# Altium schematic symbol library STMicroelectronics STM32 F1.SchLib: 244 symbols (part 3 of 24)
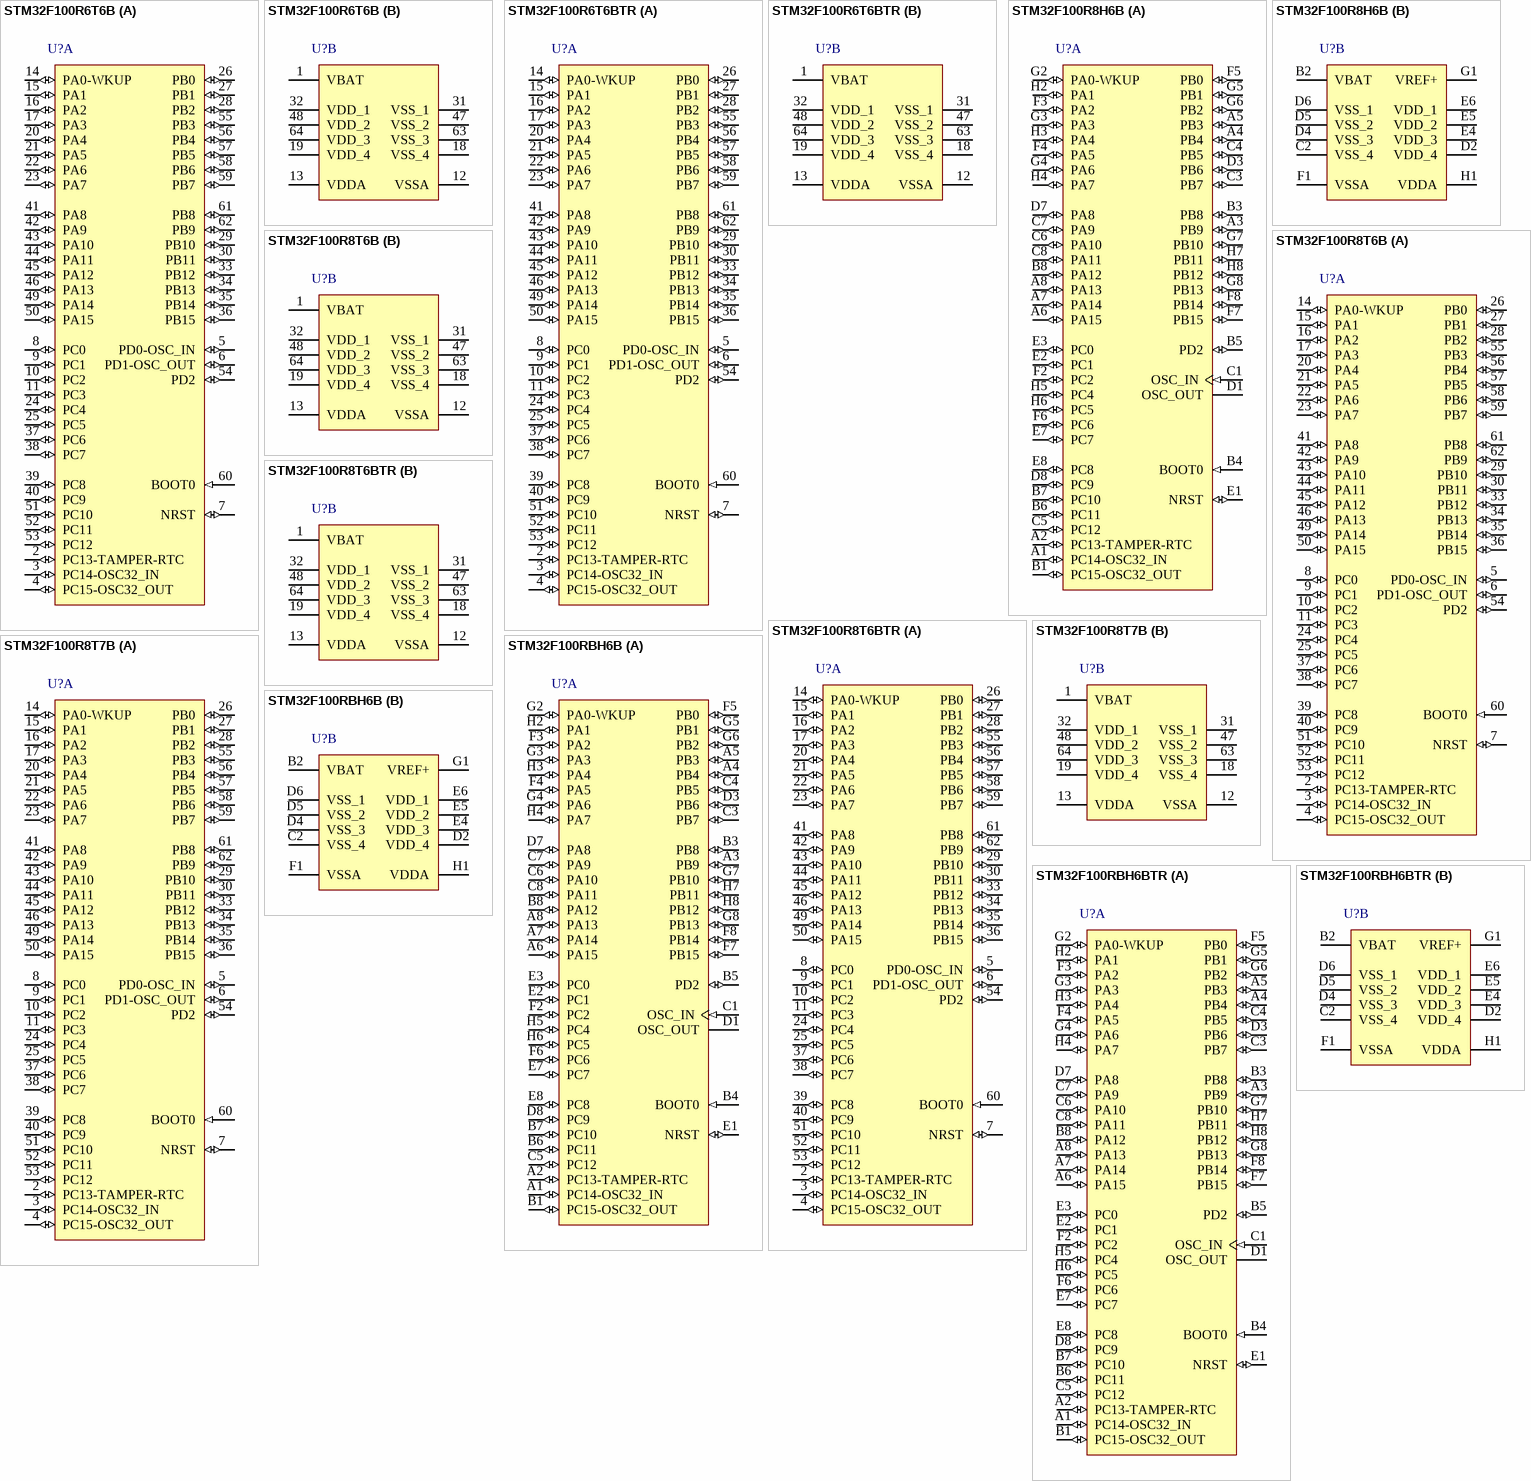
[diagram p44: symbols STM32F100R6T6B to STM32F100RBH6BTR]

## STM32F100RBH6B
designator U?
ARM Cortex-M3 32-bit MCU, 128 KB Flash, 8 KB Internal RAM, 51 I/Os, 64-pin TFBGA, -40 to 85 degC, Tray; PartNumber: STM32F100RBH6B; A/D Converter: 1x12-bit (16 Channel); D/A Converter: 2x12-bit (2 Channel); FLASH Size (Prog) (kB): 128; I/Os (High Current): 51; Internal RAM Size (kB): 8; Operating Frequency(F) (Processor speed) (MHz): 24; Supply Voltage(Vcc) min (V): 2; DatasheetVersion: Rev. 7; PackageVersion: Rev. 8, 02/2013; PackageReference: TFBGA64; PackageDescription: 64-Ball Thin Fine Pitch BGA, 5 x 5 x 1.2 mm Body, 0.5 mm Pitch; Supplier 1: Digi-Key; Supplier Part Number 1: 497-10495-ND; Supplier 2: Farnell; Supplier Part Number 2: 1899003; Supplier 3: Newark; Supplier Part Number 3: 72T2637; Supplier 4: Mouser; Supplier Part Number 4: 511-STM32F100RBH6B; Core: ARM Cortex-M3; Packing: Tray; Mounting Technology: Surface Mount; ComponentLink1Description: Manufacturer URL; ComponentLink1URL: http://www.st.com/web/en/home.html; ComponentLink2Description: Datasheet; ComponentLink2URL: http://www.st.com/st-web-ui/static/active/en/resource/technical/document/datasheet/CD00251732.pdf; ComponentLink3Description: Package Specification; ComponentLink3URL: http://www.st.com/st-web-ui/static/active/en/resource/technical/document/datasheet/CD00277537.pdf
footprint STM-TFBGA64 (BGA, 64-Balls, Body 5x5mm, Pitch 0.5mm)
part A pins: A1 PC14-OSC32_IN (io) "PC14-OSC32_IN/PC14/OSC32_IN", A2 PC13-TAMPER-RTC (io) "PC13-TAMPER-RTC/PC13/TAMPER-RTC", A3 PB9 (io) "PB9/TIM4_CH4/TIM17_CH1/I2C1_SDA", A4 PB4 (io) "PB4/NJTRST/TIM3_CH1/SPI1_MISO", A5 PB3 (io) "PB3/JTDO/TIM2_CH2/TRACESWO/SPI1_SCK", A6 PA15 (io) "PA15/JTDI/TIM2_CH1_ETR/SPI1_NSS", A7 PA14 (io) "PA14/JTCK/SWCLK", A8 PA13 (io) "PA13/JTMS-SWDIO", B1 PC15-OSC32_OUT (io) "PC15-OSC32_OUT/PC15/OSC32_OUT", B3 PB8 (io) "PB8/TIM4_CH3/TIM16_CH1/CEC/I2C1_SCL", B4 BOOT0 (in), B5 PD2 (io) "PD2/TIM3_ETR", B6 PC11 (io) "PC11/USART3_RX", B7 PC10 (io) "PC10/USART3_TX", B8 PA12 (io) "PA12/USART1_RTS/TIM1_ETR", C1 OSC_IN (in) "PD0/OSC_IN", C3 PB7 (io) "PB7/I2C1_SDA/TIM17_CH1N/TIM4_CH2/USART1_RX", C4 PB5 (io) "PB5/I2C1_SMBA/TIM16_BKIN/TIM3_CH2/SPI1_MOSI", C5 PC12 (io) "PC12/USART3_CK", C6 PA10 (io) "PA10/USART1_RX/TIM1_CH3/TIM17_BKIN", C7 PA9 (io) "PA9/USART1_TX/TIM1_CH2/TIM15_BKIN", C8 PA11 (io) "PA11/USART1_CTS/TIM1_CH4", D1 OSC_OUT "PD1/OSC_OUT", D3 PB6 (io) "PB6/I2C1_SCL/TIM4_CH1/TIM16_CH1N/USART1_TX", D7 PA8 (io) "PA8/USART1_CK/MCO/TIM1_CH1", D8 PC9 (io) "PC9/TIM3_CH4", E1 NRST (io), E2 PC1 (io) "PC1/ADC1_IN11", E3 PC0 (io) "PC0/ADC1_IN10", E7 PC7 (io) "PC7/TIM3_CH2", E8 PC8 (io) "PC8/TIM3_CH3", F2 PC2 (io) "PC2/ADC1_IN12", F3 PA2 (io) "PA2/USART2_TX/ADC1_IN2/TIM2_CH3/TIM15_CH1", F4 PA5 (io) "PA5/SPI1_SCK/ADC1_IN5/DAC2_OUT", F5 PB0 (io) "PB0/ADC1_IN8/TIM3_CH3/TIM1_CH2N", F6 PC6 (io) "PC6/TIM3_CH1", F7 PB15 (io) "PB15/SPI2_MOSI/TIM1_CH3N/TIM15_CH1N/TIM15_CH2", F8 PB14 (io) "PB14/SPI2_MISO/TIM1_CH2N/USART3_RTS/TIM15_CH1", G2 PA0-WKUP (io) "PA0-WKUP/PA0/WKUP/USART2_CTS/ADC1_IN0/TIM2_CH1_ETR", G3 PA3 (io) "PA3/USART2_RX/ADC1_IN3/TIM2_CH4/TIM15_CH2", G4 PA6 (io) "PA6/SPI1_MISO/ADC1_IN6/TIM3_CH1/TIM1_BKIN/TIM16_CH1", G5 PB1 (io) "PB1/ADC1_IN9/TIM3_CH4/TIM1_CH3N", G6 PB2 (io) "PB2/BOOT1", G7 PB10 (io) "PB10/I2C2_SCL/USART3_TX/TIM2_CH3/HDMI_CEC", G8 PB13 (io) "PB13/SPI2_SCK/TIM1_CH1N/USART3_CTS", H2 PA1 (io) "PA1/USART2_RTS/ADC1_IN1/TIM2_CH2", H3 PA4 (io) "PA4/SPI1_NSS/ADC1_IN4/USART2_CK/DAC1_OUT", H4 PA7 (io) "PA7/SPI1_MOSI/ADC1_IN7/TIM3_CH2/TIM1_CH1N/TIM17_CH1", H5 PC4 (io) "PC4/ADC1_IN14", H6 PC5 (io) "PC5/ADC1_IN15", H7 PB11 (io) "PB11/I2C2_SDA/USART3_RX/TIM2_CH4", H8 PB12 (io) "PB12/SPI2_NSS/I2C2_SMBA/TIM1_BKIN/USART3_CK"
part B pins: B2 VBAT (power), C2 VSS_4 (power), D2 VDD_4 (power), D4 VSS_3 (power), D5 VSS_2 (power), D6 VSS_1 (power), E4 VDD_3 (power), E5 VDD_2 (power), E6 VDD_1 (power), F1 VSSA (power), G1 VREF+ (power), H1 VDDA (power)

## STM32F100RBH6BTR
designator U?
ARM Cortex-M3 32-bit MCU, 128 KB Flash, 8 KB Internal RAM, 51 I/Os, 64-pin TFBGA, -40 to 85 degC, Tape and Reel; PartNumber: STM32F100RBH6BTR; A/D Converter: 1x12-bit (16 Channel); D/A Converter: 2x12-bit (2 Channel); FLASH Size (Prog) (kB): 128; I/Os (High Current): 51; Internal RAM Size (kB): 8; Operating Frequency(F) (Processor speed) (MHz): 24; Supply Voltage(Vcc) min (V): 2; DatasheetVersion: Rev. 7; PackageVersion: Rev. 8, 02/2013; PackageReference: TFBGA64; PackageDescription: 64-Ball Thin Fine Pitch BGA, 5 x 5 x 1.2 mm Body, 0.5 mm Pitch; Supplier 1: Digi-Key; Supplier Part Number 1: STM32F100RBH6BTR-ND; Supplier 2: Mouser; Supplier Part Number 2: 511-STM32F100RBH6BTR; Core: ARM Cortex-M3; Packing: Tape and Reel; Mounting Technology: Surface Mount; ComponentLink1Description: Manufacturer URL; ComponentLink1URL: http://www.st.com/web/en/home.html; ComponentLink2Description: Datasheet; ComponentLink2URL: http://www.st.com/st-web-ui/static/active/en/resource/technical/document/datasheet/CD00251732.pdf; ComponentLink3Description: Package Specification; ComponentLink3URL: http://www.st.com/st-web-ui/static/active/en/resource/technical/document/datasheet/CD00277537.pdf
footprint STM-TFBGA64 (BGA, 64-Balls, Body 5x5mm, Pitch 0.5mm)
part A pins: A1 PC14-OSC32_IN (io) "PC14-OSC32_IN/PC14/OSC32_IN", A2 PC13-TAMPER-RTC (io) "PC13-TAMPER-RTC/PC13/TAMPER-RTC", A3 PB9 (io) "PB9/TIM4_CH4/TIM17_CH1/I2C1_SDA", A4 PB4 (io) "PB4/NJTRST/TIM3_CH1/SPI1_MISO", A5 PB3 (io) "PB3/JTDO/TIM2_CH2/TRACESWO/SPI1_SCK", A6 PA15 (io) "PA15/JTDI/TIM2_CH1_ETR/SPI1_NSS", A7 PA14 (io) "PA14/JTCK/SWCLK", A8 PA13 (io) "PA13/JTMS-SWDIO", B1 PC15-OSC32_OUT (io) "PC15-OSC32_OUT/PC15/OSC32_OUT", B3 PB8 (io) "PB8/TIM4_CH3/TIM16_CH1/CEC/I2C1_SCL", B4 BOOT0 (in), B5 PD2 (io) "PD2/TIM3_ETR", B6 PC11 (io) "PC11/USART3_RX", B7 PC10 (io) "PC10/USART3_TX", B8 PA12 (io) "PA12/USART1_RTS/TIM1_ETR", C1 OSC_IN (in) "PD0/OSC_IN", C3 PB7 (io) "PB7/I2C1_SDA/TIM17_CH1N/TIM4_CH2/USART1_RX", C4 PB5 (io) "PB5/I2C1_SMBA/TIM16_BKIN/TIM3_CH2/SPI1_MOSI", C5 PC12 (io) "PC12/USART3_CK", C6 PA10 (io) "PA10/USART1_RX/TIM1_CH3/TIM17_BKIN", C7 PA9 (io) "PA9/USART1_TX/TIM1_CH2/TIM15_BKIN", C8 PA11 (io) "PA11/USART1_CTS/TIM1_CH4", D1 OSC_OUT "PD1/OSC_OUT", D3 PB6 (io) "PB6/I2C1_SCL/TIM4_CH1/TIM16_CH1N/USART1_TX", D7 PA8 (io) "PA8/USART1_CK/MCO/TIM1_CH1", D8 PC9 (io) "PC9/TIM3_CH4", E1 NRST (io), E2 PC1 (io) "PC1/ADC1_IN11", E3 PC0 (io) "PC0/ADC1_IN10", E7 PC7 (io) "PC7/TIM3_CH2", E8 PC8 (io) "PC8/TIM3_CH3", F2 PC2 (io) "PC2/ADC1_IN12", F3 PA2 (io) "PA2/USART2_TX/ADC1_IN2/TIM2_CH3/TIM15_CH1", F4 PA5 (io) "PA5/SPI1_SCK/ADC1_IN5/DAC2_OUT", F5 PB0 (io) "PB0/ADC1_IN8/TIM3_CH3/TIM1_CH2N", F6 PC6 (io) "PC6/TIM3_CH1", F7 PB15 (io) "PB15/SPI2_MOSI/TIM1_CH3N/TIM15_CH1N/TIM15_CH2", F8 PB14 (io) "PB14/SPI2_MISO/TIM1_CH2N/USART3_RTS/TIM15_CH1", G2 PA0-WKUP (io) "PA0-WKUP/PA0/WKUP/USART2_CTS/ADC1_IN0/TIM2_CH1_ETR", G3 PA3 (io) "PA3/USART2_RX/ADC1_IN3/TIM2_CH4/TIM15_CH2", G4 PA6 (io) "PA6/SPI1_MISO/ADC1_IN6/TIM3_CH1/TIM1_BKIN/TIM16_CH1", G5 PB1 (io) "PB1/ADC1_IN9/TIM3_CH4/TIM1_CH3N", G6 PB2 (io) "PB2/BOOT1", G7 PB10 (io) "PB10/I2C2_SCL/USART3_TX/TIM2_CH3/HDMI_CEC", G8 PB13 (io) "PB13/SPI2_SCK/TIM1_CH1N/USART3_CTS", H2 PA1 (io) "PA1/USART2_RTS/ADC1_IN1/TIM2_CH2", H3 PA4 (io) "PA4/SPI1_NSS/ADC1_IN4/USART2_CK/DAC1_OUT", H4 PA7 (io) "PA7/SPI1_MOSI/ADC1_IN7/TIM3_CH2/TIM1_CH1N/TIM17_CH1", H5 PC4 (io) "PC4/ADC1_IN14", H6 PC5 (io) "PC5/ADC1_IN15", H7 PB11 (io) "PB11/I2C2_SDA/USART3_RX/TIM2_CH4", H8 PB12 (io) "PB12/SPI2_NSS/I2C2_SMBA/TIM1_BKIN/USART3_CK"
part B pins: B2 VBAT (power), C2 VSS_4 (power), D2 VDD_4 (power), D4 VSS_3 (power), D5 VSS_2 (power), D6 VSS_1 (power), E4 VDD_3 (power), E5 VDD_2 (power), E6 VDD_1 (power), F1 VSSA (power), G1 VREF+ (power), H1 VDDA (power)

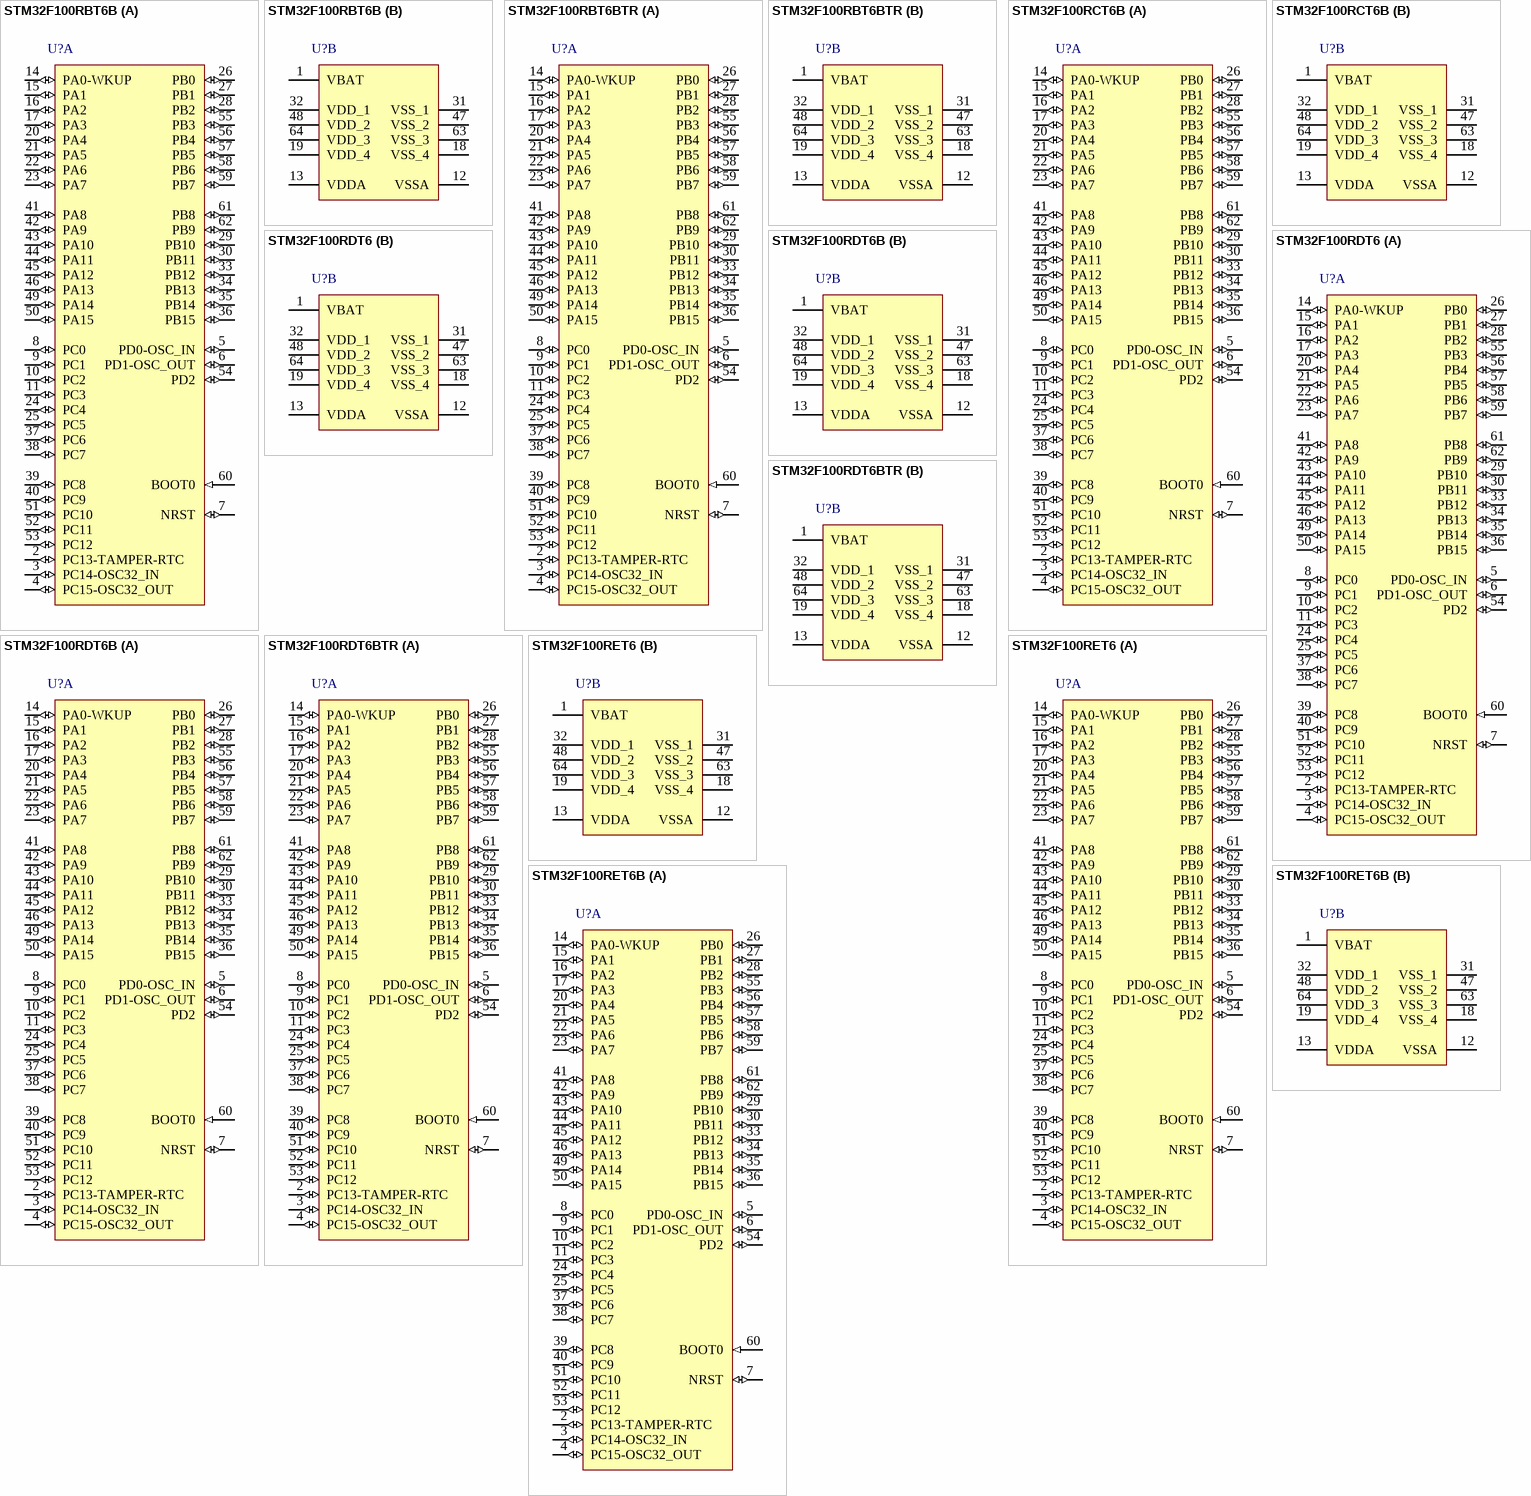
[diagram p3: symbols STM32F100RBT6B to STM32F100RET6B]

## STM32F100RBT6B
designator U?
ARM Cortex-M3 32-bit MCU, 128 KB Flash, 8 KB Internal RAM, 51 I/Os, 64-pin LQFP, -40 to 85 degC, Tray; PartNumber: STM32F100RBT6B; A/D Converter: 1x12-bit (16 Channel); D/A Converter: 2x12-bit (2 Channel); FLASH Size (Prog) (kB): 128; I/Os (High Current): 51; Internal RAM Size (kB): 8; Operating Frequency(F) (Processor speed) (MHz): 24; Supply Voltage(Vcc) min (V): 2; DatasheetVersion: Rev. 7; PackageVersion: Rev. 4, 06/2013; PackageReference: LQFP64; PackageDescription: 64-Pin Low Profile Quad Flat Package, 10 x 10 mm Body, 0.5 mm Pitch; Supplier 1: Digi-Key; Supplier Part Number 1: 497-10494-ND; Supplier 2: Newark; Supplier Part Number 2: 76R0989; Supplier 3: Mouser; Supplier Part Number 3: 511-STM32F100RBT6B; Core: ARM Cortex-M3; Packing: Tray; Mounting Technology: Surface Mount; ComponentLink1Description: Manufacturer URL; ComponentLink1URL: http://www.st.com/web/en/home.html; ComponentLink2Description: Datasheet; ComponentLink2URL: http://www.st.com/st-web-ui/static/active/en/resource/technical/document/datasheet/CD00251732.pdf; ComponentLink3Description: Package Specification; ComponentLink3URL: http://www.st.com/st-web-ui/static/active/en/resource/technical/document/datasheet/DM00037051.pdf
footprint STM-LQFP64_N (Thin QFP, 64-Leads, Body 10x10mm, Pitch 0.5mm, IPC Medium Density)
footprint STM-LQFP64_L (Thin QFP, 64-Leads, Body 10x10mm, Pitch 0.5mm, IPC High Density)
footprint STM-LQFP64_M (Thin QFP, 64-Leads, Body 10x10mm, Pitch 0.5mm, IPC Low Density)
footprint STM-LQFP64_V (Thin QFP, 64-Leads, Body 10x10mm, Pitch 0.5mm, ST Recommended)
part A pins: 2 PC13-TAMPER-RTC (io) "PC13-TAMPER-RTC/PC13/TAMPER-RTC", 3 PC14-OSC32_IN (io) "PC14-OSC32_IN/PC14/OSC32_IN", 4 PC15-OSC32_OUT (io) "PC15-OSC32_OUT/PC15/OSC32_OUT", 5 PD0-OSC_IN (io) "PD0/OSC_IN", 6 PD1-OSC_OUT (io) "PD1/OSC_OUT", 7 NRST (io), 8 PC0 (io) "PC0/ADC1_IN10", 9 PC1 (io) "PC1/ADC1_IN11", 10 PC2 (io) "PC2/ADC1_IN12", 11 PC3 (io) "PC3/ADC1_IN13", 14 PA0-WKUP (io) "PA0-WKUP/PA0/WKUP/USART2_CTS/ADC1_IN0/TIM2_CH1_ETR", 15 PA1 (io) "PA1/USART2_RTS/ADC1_IN1/TIM2_CH2", 16 PA2 (io) "PA2/USART2_TX/ADC1_IN2/TIM2_CH3/TIM15_CH1", 17 PA3 (io) "PA3/USART2_RX/ADC1_IN3/TIM2_CH4/TIM15_CH2", 20 PA4 (io) "PA4/SPI1_NSS/ADC1_IN4/USART2_CK/DAC1_OUT", 21 PA5 (io) "PA5/SPI1_SCK/ADC1_IN5/DAC2_OUT", 22 PA6 (io) "PA6/SPI1_MISO/ADC1_IN6/TIM3_CH1/TIM1_BKIN/TIM16_CH1", 23 PA7 (io) "PA7/SPI1_MOSI/ADC1_IN7/TIM3_CH2/TIM1_CH1N/TIM17_CH1", 24 PC4 (io) "PC4/ADC1_IN14", 25 PC5 (io) "PC5/ADC1_IN15", 26 PB0 (io) "PB0/ADC1_IN8/TIM3_CH3/TIM1_CH2N", 27 PB1 (io) "PB1/ADC1_IN9/TIM3_CH4/TIM1_CH3N", 28 PB2 (io) "PB2/BOOT1", 29 PB10 (io) "PB10/I2C2_SCL/USART3_TX/TIM2_CH3/HDMI_CEC", 30 PB11 (io) "PB11/I2C2_SDA/USART3_RX/TIM2_CH4", 33 PB12 (io) "PB12/SPI2_NSS/I2C2_SMBA/TIM1_BKIN/USART3_CK", 34 PB13 (io) "PB13/SPI2_SCK/TIM1_CH1N/USART3_CTS", 35 PB14 (io) "PB14/SPI2_MISO/TIM1_CH2N/USART3_RTS/TIM15_CH1", 36 PB15 (io) "PB15/SPI2_MOSI/TIM1_CH3N/TIM15_CH1N/TIM15_CH2", 37 PC6 (io) "PC6/TIM3_CH1", 38 PC7 (io) "PC7/TIM3_CH2", 39 PC8 (io) "PC8/TIM3_CH3", 40 PC9 (io) "PC9/TIM3_CH4", 41 PA8 (io) "PA8/USART1_CK/MCO/TIM1_CH1", 42 PA9 (io) "PA9/USART1_TX/TIM1_CH2/TIM15_BKIN", 43 PA10 (io) "PA10/USART1_RX/TIM1_CH3/TIM17_BKIN", 44 PA11 (io) "PA11/USART1_CTS/TIM1_CH4", 45 PA12 (io) "PA12/USART1_RTS/TIM1_ETR", 46 PA13 (io) "PA13/JTMS-SWDIO", 49 PA14 (io) "PA14/JTCK/SWCLK", 50 PA15 (io) "PA15/JTDI/TIM2_CH1_ETR/SPI1_NSS", 51 PC10 (io) "PC10/USART3_TX", 52 PC11 (io) "PC11/USART3_RX", 53 PC12 (io) "PC12/USART3_CK", 54 PD2 (io) "PD2/TIM3_ETR", 55 PB3 (io) "PB3/JTDO/TIM2_CH2/TRACESWO/SPI1_SCK", 56 PB4 (io) "PB4/NJTRST/TIM3_CH1/SPI1_MISO", 57 PB5 (io) "PB5/I2C1_SMBA/TIM16_BKIN/TIM3_CH2/SPI1_MOSI", 58 PB6 (io) "PB6/I2C1_SCL/TIM4_CH1/TIM16_CH1N/USART1_TX", 59 PB7 (io) "PB7/I2C1_SDA/TIM17_CH1N/TIM4_CH2/USART1_RX", 60 BOOT0 (in), 61 PB8 (io) "PB8/TIM4_CH3/TIM16_CH1/CEC/I2C1_SCL", 62 PB9 (io) "PB9/TIM4_CH4/TIM17_CH1/I2C1_SDA"
part B pins: 1 VBAT (power), 12 VSSA (power), 13 VDDA (power), 18 VSS_4 (power), 19 VDD_4 (power), 31 VSS_1 (power), 32 VDD_1 (power), 47 VSS_2 (power), 48 VDD_2 (power), 63 VSS_3 (power), 64 VDD_3 (power)

## STM32F100RBT6BTR
designator U?
ARM Cortex-M3 32-bit MCU, 128 KB Flash, 8 KB Internal RAM, 51 I/Os, 64-pin LQFP, -40 to 85 degC, Tape and Reel; PartNumber: STM32F100RBT6BTR; A/D Converter: 1x12-bit (16 Channel); D/A Converter: 2x12-bit (2 Channel); FLASH Size (Prog) (kB): 128; I/Os (High Current): 51; Internal RAM Size (kB): 8; Operating Frequency(F) (Processor speed) (MHz): 24; Supply Voltage(Vcc) min (V): 2; DatasheetVersion: Rev. 7; PackageVersion: Rev. 4, 06/2013; PackageReference: LQFP64; PackageDescription: 64-Pin Low Profile Quad Flat Package, 10 x 10 mm Body, 0.5 mm Pitch; Supplier 1: Digi-Key; Supplier Part Number 1: STM32F100RBT6BTR-ND; Supplier 2: Mouser; Supplier Part Number 2: 511-STM32F100RBT6BTR; Core: ARM Cortex-M3; Packing: Tape and Reel; Mounting Technology: Surface Mount; ComponentLink1Description: Manufacturer URL; ComponentLink1URL: http://www.st.com/web/en/home.html; ComponentLink2Description: Datasheet; ComponentLink2URL: http://www.st.com/st-web-ui/static/active/en/resource/technical/document/datasheet/CD00251732.pdf; ComponentLink3Description: Package Specification; ComponentLink3URL: http://www.st.com/st-web-ui/static/active/en/resource/technical/document/datasheet/DM00037051.pdf
footprint STM-LQFP64_N (Thin QFP, 64-Leads, Body 10x10mm, Pitch 0.5mm, IPC Medium Density)
footprint STM-LQFP64_L (Thin QFP, 64-Leads, Body 10x10mm, Pitch 0.5mm, IPC High Density)
footprint STM-LQFP64_M (Thin QFP, 64-Leads, Body 10x10mm, Pitch 0.5mm, IPC Low Density)
footprint STM-LQFP64_V (Thin QFP, 64-Leads, Body 10x10mm, Pitch 0.5mm, ST Recommended)
part A pins: 2 PC13-TAMPER-RTC (io) "PC13-TAMPER-RTC/PC13/TAMPER-RTC", 3 PC14-OSC32_IN (io) "PC14-OSC32_IN/PC14/OSC32_IN", 4 PC15-OSC32_OUT (io) "PC15-OSC32_OUT/PC15/OSC32_OUT", 5 PD0-OSC_IN (io) "PD0/OSC_IN", 6 PD1-OSC_OUT (io) "PD1/OSC_OUT", 7 NRST (io), 8 PC0 (io) "PC0/ADC1_IN10", 9 PC1 (io) "PC1/ADC1_IN11", 10 PC2 (io) "PC2/ADC1_IN12", 11 PC3 (io) "PC3/ADC1_IN13", 14 PA0-WKUP (io) "PA0-WKUP/PA0/WKUP/USART2_CTS/ADC1_IN0/TIM2_CH1_ETR", 15 PA1 (io) "PA1/USART2_RTS/ADC1_IN1/TIM2_CH2", 16 PA2 (io) "PA2/USART2_TX/ADC1_IN2/TIM2_CH3/TIM15_CH1", 17 PA3 (io) "PA3/USART2_RX/ADC1_IN3/TIM2_CH4/TIM15_CH2", 20 PA4 (io) "PA4/SPI1_NSS/ADC1_IN4/USART2_CK/DAC1_OUT", 21 PA5 (io) "PA5/SPI1_SCK/ADC1_IN5/DAC2_OUT", 22 PA6 (io) "PA6/SPI1_MISO/ADC1_IN6/TIM3_CH1/TIM1_BKIN/TIM16_CH1", 23 PA7 (io) "PA7/SPI1_MOSI/ADC1_IN7/TIM3_CH2/TIM1_CH1N/TIM17_CH1", 24 PC4 (io) "PC4/ADC1_IN14", 25 PC5 (io) "PC5/ADC1_IN15", 26 PB0 (io) "PB0/ADC1_IN8/TIM3_CH3/TIM1_CH2N", 27 PB1 (io) "PB1/ADC1_IN9/TIM3_CH4/TIM1_CH3N", 28 PB2 (io) "PB2/BOOT1", 29 PB10 (io) "PB10/I2C2_SCL/USART3_TX/TIM2_CH3/HDMI_CEC", 30 PB11 (io) "PB11/I2C2_SDA/USART3_RX/TIM2_CH4", 33 PB12 (io) "PB12/SPI2_NSS/I2C2_SMBA/TIM1_BKIN/USART3_CK", 34 PB13 (io) "PB13/SPI2_SCK/TIM1_CH1N/USART3_CTS", 35 PB14 (io) "PB14/SPI2_MISO/TIM1_CH2N/USART3_RTS/TIM15_CH1", 36 PB15 (io) "PB15/SPI2_MOSI/TIM1_CH3N/TIM15_CH1N/TIM15_CH2", 37 PC6 (io) "PC6/TIM3_CH1", 38 PC7 (io) "PC7/TIM3_CH2", 39 PC8 (io) "PC8/TIM3_CH3", 40 PC9 (io) "PC9/TIM3_CH4", 41 PA8 (io) "PA8/USART1_CK/MCO/TIM1_CH1", 42 PA9 (io) "PA9/USART1_TX/TIM1_CH2/TIM15_BKIN", 43 PA10 (io) "PA10/USART1_RX/TIM1_CH3/TIM17_BKIN", 44 PA11 (io) "PA11/USART1_CTS/TIM1_CH4", 45 PA12 (io) "PA12/USART1_RTS/TIM1_ETR", 46 PA13 (io) "PA13/JTMS-SWDIO", 49 PA14 (io) "PA14/JTCK/SWCLK", 50 PA15 (io) "PA15/JTDI/TIM2_CH1_ETR/SPI1_NSS", 51 PC10 (io) "PC10/USART3_TX", 52 PC11 (io) "PC11/USART3_RX", 53 PC12 (io) "PC12/USART3_CK", 54 PD2 (io) "PD2/TIM3_ETR", 55 PB3 (io) "PB3/JTDO/TIM2_CH2/TRACESWO/SPI1_SCK", 56 PB4 (io) "PB4/NJTRST/TIM3_CH1/SPI1_MISO", 57 PB5 (io) "PB5/I2C1_SMBA/TIM16_BKIN/TIM3_CH2/SPI1_MOSI", 58 PB6 (io) "PB6/I2C1_SCL/TIM4_CH1/TIM16_CH1N/USART1_TX", 59 PB7 (io) "PB7/I2C1_SDA/TIM17_CH1N/TIM4_CH2/USART1_RX", 60 BOOT0 (in), 61 PB8 (io) "PB8/TIM4_CH3/TIM16_CH1/CEC/I2C1_SCL", 62 PB9 (io) "PB9/TIM4_CH4/TIM17_CH1/I2C1_SDA"
part B pins: 1 VBAT (power), 12 VSSA (power), 13 VDDA (power), 18 VSS_4 (power), 19 VDD_4 (power), 31 VSS_1 (power), 32 VDD_1 (power), 47 VSS_2 (power), 48 VDD_2 (power), 63 VSS_3 (power), 64 VDD_3 (power)

## STM32F100RCT6B
designator U?
ARM Cortex-M3 32-bit MCU, 256 KB Flash, 24 KB Internal RAM, 51 I/Os, 64-pin LQFP, -40 to 85 degC, Tray; PartNumber: STM32F100RCT6B; A/D Converter: 1x12-bit (16 Channel); D/A Converter: 2x12-bit (2 Channel); FLASH Size (Prog) (kB): 256; I/Os (High Current): 51; Internal RAM Size (kB): 24; Supply Voltage(Vcc) min (V): 2; DatasheetVersion: Rev. 7; PackageVersion: Rev. 4, 06/2013; PackageReference: LQFP64; PackageDescription: 64-Pin Low Profile Quad Flat Package, 10 x 10 mm Body, 0.5 mm Pitch; Supplier 1: Digi-Key; Supplier Part Number 1: 497-11498-ND; Supplier 2: Farnell; Supplier Part Number 2: 2060881; Supplier 3: Newark; Supplier Part Number 3: 65T3765; Supplier 4: Mouser; Supplier Part Number 4: 511-STM32F100RCT6B; Core: ARM Cortex-M3; Operating Frequency(F) (Processor speed) (MHz): 24; Packing: Tray; Mounting Technology: Surface Mount; ComponentLink1Description: Manufacturer URL; ComponentLink1URL: http://www.st.com/web/en/home.html; ComponentLink2Description: Datasheet; ComponentLink2URL: http://www.st.com/st-web-ui/static/active/en/resource/technical/document/datasheet/CD00212417.pdf; ComponentLink3Description: Package Specification; ComponentLink3URL: http://www.st.com/st-web-ui/static/active/en/resource/technical/document/datasheet/DM00037051.pdf
footprint STM-LQFP64_N (Thin QFP, 64-Leads, Body 10x10mm, Pitch 0.5mm, IPC Medium Density)
footprint STM-LQFP64_L (Thin QFP, 64-Leads, Body 10x10mm, Pitch 0.5mm, IPC High Density)
footprint STM-LQFP64_M (Thin QFP, 64-Leads, Body 10x10mm, Pitch 0.5mm, IPC Low Density)
footprint STM-LQFP64_V (Thin QFP, 64-Leads, Body 10x10mm, Pitch 0.5mm, ST Recommended)
part A pins: 2 PC13-TAMPER-RTC (io) "PC13-TAMPER-RTC/PC13/TAMPER-RTC", 3 PC14-OSC32_IN (io) "PC14-OSC32_IN/PC14/OSC32_IN", 4 PC15-OSC32_OUT (io) "PC15-OSC32_OUT/PC15/OSC32_OUT", 5 PD0-OSC_IN (io) "PD0/OSC_IN", 6 PD1-OSC_OUT (io) "PD1/OSC_OUT", 7 NRST (io), 8 PC0 (io) "PC0/ADC_IN10", 9 PC1 (io) "PC1/ADC_IN11", 10 PC2 (io) "PC2/ADC_IN12", 11 PC3 (io) "PC3/ADC_IN13", 14 PA0-WKUP (io) "PA0-WKUP/PA0/WKUP/USART2_CTS/ADC_IN0/TIM2_CH1_ETR/TIM5_CH1", 15 PA1 (io) "PA1/USART2_RTS/ADC_IN1/TIM5_CH2/TIM2_CH2", 16 PA2 (io) "PA2/USART2_TX/TIM5_CH3/ADC_IN2/TIM15_CH1/TIM2_CH3", 17 PA3 (io) "PA3/USART2_RX/TIM5_CH4/ADC_IN3/TIM2_CH4/TIM15_CH2", 20 PA4 (io) "PA4/SPI1_NSS/USART2_CK/DAC_OUT1/ADC_IN4", 21 PA5 (io) "PA5/SPI1_SCK/DAC_OUT2/ADC_IN5", 22 PA6 (io) "PA6/SPI1_MISO/ADC_IN6/TIM3_CH1/TIM1_BKIN/TIM16_CH1", 23 PA7 (io) "PA7/SPI1_MOSI/ADC_IN7/TIM3_CH2/TIM1_CH1N/TIM17_CH1", 24 PC4 (io) "PC4/ADC_IN14/TIM12_CH1", 25 PC5 (io) "PC5/ADC_IN15/TIM12_CH2", 26 PB0 (io) "PB0/ADC_IN8/TIM3_CH3/TIM1_CH2N/TIM13_CH1", 27 PB1 (io) "PB1/ADC_IN9/TIM3_CH4/TIM1_CH3N/TIM14_CH1", 28 PB2 (io) "PB2/BOOT1", 29 PB10 (io) "PB10/I2C2_SCL/USART3_TX/TIM2_CH3/HDMI_CEC", 30 PB11 (io) "PB11/I2C2_SDA/USART3_RX/TIM2_CH4", 33 PB12 (io) "PB12/SPI2_NSS/I2C2_SMBA/USART3_CK/TIM1_BKIN/TIM12_CH1", 34 PB13 (io) "PB13/SPI2_SCK/USART3_CTS/TIM1_CH1N/TIM12_CH2", 35 PB14 (io) "PB14/SPI2_MISO/TIM1_CH2N/USART3_RTS/TIM15_CH1", 36 PB15 (io) "PB15/SPI2_MOSI/TIM1_CH3N/TIM15_CH1N/TIM15_CH2", 37 PC6 (io) "PC6/TIM3_CH1", 38 PC7 (io) "PC7/TIM3_CH2", 39 PC8 (io) "PC8/TIM13_CH1/TIM3_CH3", 40 PC9 (io) "PC9/TIM14_CH1/TIM3_CH4", 41 PA8 (io) "PA8/USART1_CK/TIM1_CH1/MCO", 42 PA9 (io) "PA9/USART1_TX/TIM1_CH2/TIM15_BKIN", 43 PA10 (io) "PA10/USART1_RX/TIM1_CH3/TIM17_BKIN", 44 PA11 (io) "PA11/USART1_CTS/TIM1_CH4", 45 PA12 (io) "PA12/USART1_RTS/TIM1_ETR", 46 PA13 (io) "PA13/JTMS-SWDIO", 49 PA14 (io) "PA14/JTCK-SWCLK", 50 PA15 (io) "PA15/JTDI/SPI3_NSS/TIM2_CH1_ETR/SPI1_NSS", 51 PC10 (io) "PC10/UART4_TX/USART3_TX", 52 PC11 (io) "PC11/UART4_RX/USART3_RX", 53 PC12 (io) "PC12/UART5_TX/USART3_CK", 54 PD2 (io) "PD2/TIM3_ETR/UART5_RX", 55 PB3 (io) "PB3/JTDO/SPI3_SCK/TRACESWO/TIM2_CH2/SPI1_SCK", 56 PB4 (io) "PB4/NJTRST/SPI3_MISO/TIM3_CH1/SPI1_MISO", 57 PB5 (io) "PB5/I2C1_SMBA/SPI3_MOSI/TIM16_BKIN/TIM3_CH2/SPI1_MOSI", 58 PB6 (io) "PB6/I2C1_SCL/TIM4_CH1/TIM16_CH1N/USART1_TX", 59 PB7 (io) "PB7/I2C1_SDA/TIM4_CH2/TIM17_CH1N/USART1_RX", 60 BOOT0 (in), 61 PB8 (io) "PB8/TIM4_CH3/TIM16_CH1/HDMI_CEC/I2C1_SCL", 62 PB9 (io) "PB9/TIM4_CH4/TIM17_CH1/I2C1_SDA"
part B pins: 1 VBAT (power), 12 VSSA (power), 13 VDDA (power), 18 VSS_4 (power), 19 VDD_4 (power), 31 VSS_1 (power), 32 VDD_1 (power), 47 VSS_2 (power), 48 VDD_2 (power), 63 VSS_3 (power), 64 VDD_3 (power)

## STM32F100RDT6
designator U?
ARM Cortex-M3 32-bit MCU, 384 KB Flash, 32 KB Internal RAM, 51 I/Os, 64-pin LQFP, -40 to 85 degC, Tray; PartNumber: STM32F100RDT6; A/D Converter: 1x12-bit (16 Channel); D/A Converter: 2x12-bit (2 Channel); FLASH Size (Prog) (kB): 384; I/Os (High Current): 51; Internal RAM Size (kB): 32; Operating Frequency(F) (Processor speed) (MHz): 24; Supply Voltage(Vcc) min (V): 2; DatasheetVersion: Rev. 7; PackageVersion: Rev. 4, 06/2013; PackageReference: LQFP64; PackageDescription: 64-Pin Low Profile Quad Flat Package, 10 x 10 mm Body, 0.5 mm Pitch; Supplier 1: Mouser; Supplier Part Number 1: N/A; Core: ARM Cortex-M3; Packing: Tray; Mounting Technology: Surface Mount; ComponentLink1Description: Manufacturer URL; ComponentLink1URL: http://www.st.com/web/en/home.html; ComponentLink2Description: Datasheet; ComponentLink2URL: http://www.st.com/st-web-ui/static/active/en/resource/technical/document/datasheet/CD00212417.pdf; ComponentLink3Description: Package Specification; ComponentLink3URL: http://www.st.com/st-web-ui/static/active/en/resource/technical/document/datasheet/DM00037051.pdf
footprint STM-LQFP64_N (Thin QFP, 64-Leads, Body 10x10mm, Pitch 0.5mm, IPC Medium Density)
footprint STM-LQFP64_L (Thin QFP, 64-Leads, Body 10x10mm, Pitch 0.5mm, IPC High Density)
footprint STM-LQFP64_M (Thin QFP, 64-Leads, Body 10x10mm, Pitch 0.5mm, IPC Low Density)
footprint STM-LQFP64_V (Thin QFP, 64-Leads, Body 10x10mm, Pitch 0.5mm, ST Recommended)
part A pins: 2 PC13-TAMPER-RTC (io) "PC13-TAMPER-RTC/PC13/TAMPER-RTC", 3 PC14-OSC32_IN (io) "PC14-OSC32_IN/PC14/OSC32_IN", 4 PC15-OSC32_OUT (io) "PC15-OSC32_OUT/PC15/OSC32_OUT", 5 PD0-OSC_IN (io) "PD0/OSC_IN", 6 PD1-OSC_OUT (io) "PD1/OSC_OUT", 7 NRST (io), 8 PC0 (io) "PC0/ADC_IN10", 9 PC1 (io) "PC1/ADC_IN11", 10 PC2 (io) "PC2/ADC_IN12", 11 PC3 (io) "PC3/ADC_IN13", 14 PA0-WKUP (io) "PA0-WKUP/PA0/WKUP/USART2_CTS/ADC_IN0/TIM2_CH1_ETR/TIM5_CH1", 15 PA1 (io) "PA1/USART2_RTS/ADC_IN1/TIM5_CH2/TIM2_CH2", 16 PA2 (io) "PA2/USART2_TX/TIM5_CH3/ADC_IN2/TIM15_CH1/TIM2_CH3", 17 PA3 (io) "PA3/USART2_RX/TIM5_CH4/ADC_IN3/TIM2_CH4/TIM15_CH2", 20 PA4 (io) "PA4/SPI1_NSS/USART2_CK/DAC_OUT1/ADC_IN4", 21 PA5 (io) "PA5/SPI1_SCK/DAC_OUT2/ADC_IN5", 22 PA6 (io) "PA6/SPI1_MISO/ADC_IN6/TIM3_CH1/TIM1_BKIN/TIM16_CH1", 23 PA7 (io) "PA7/SPI1_MOSI/ADC_IN7/TIM3_CH2/TIM1_CH1N/TIM17_CH1", 24 PC4 (io) "PC4/ADC_IN14/TIM12_CH1", 25 PC5 (io) "PC5/ADC_IN15/TIM12_CH2", 26 PB0 (io) "PB0/ADC_IN8/TIM3_CH3/TIM1_CH2N/TIM13_CH1", 27 PB1 (io) "PB1/ADC_IN9/TIM3_CH4/TIM1_CH3N/TIM14_CH1", 28 PB2 (io) "PB2/BOOT1", 29 PB10 (io) "PB10/I2C2_SCL/USART3_TX/TIM2_CH3/HDMI_CEC", 30 PB11 (io) "PB11/I2C2_SDA/USART3_RX/TIM2_CH4", 33 PB12 (io) "PB12/SPI2_NSS/I2C2_SMBA/USART3_CK/TIM1_BKIN/TIM12_CH1", 34 PB13 (io) "PB13/SPI2_SCK/USART3_CTS/TIM1_CH1N/TIM12_CH2", 35 PB14 (io) "PB14/SPI2_MISO/TIM1_CH2N/USART3_RTS/TIM15_CH1", 36 PB15 (io) "PB15/SPI2_MOSI/TIM1_CH3N/TIM15_CH1N/TIM15_CH2", 37 PC6 (io) "PC6/TIM3_CH1", 38 PC7 (io) "PC7/TIM3_CH2", 39 PC8 (io) "PC8/TIM13_CH1/TIM3_CH3", 40 PC9 (io) "PC9/TIM14_CH1/TIM3_CH4", 41 PA8 (io) "PA8/USART1_CK/TIM1_CH1/MCO", 42 PA9 (io) "PA9/USART1_TX/TIM1_CH2/TIM15_BKIN", 43 PA10 (io) "PA10/USART1_RX/TIM1_CH3/TIM17_BKIN", 44 PA11 (io) "PA11/USART1_CTS/TIM1_CH4", 45 PA12 (io) "PA12/USART1_RTS/TIM1_ETR", 46 PA13 (io) "PA13/JTMS-SWDIO", 49 PA14 (io) "PA14/JTCK-SWCLK", 50 PA15 (io) "PA15/JTDI/SPI3_NSS/TIM2_CH1_ETR/SPI1_NSS", 51 PC10 (io) "PC10/UART4_TX/USART3_TX", 52 PC11 (io) "PC11/UART4_RX/USART3_RX", 53 PC12 (io) "PC12/UART5_TX/USART3_CK", 54 PD2 (io) "PD2/TIM3_ETR/UART5_RX", 55 PB3 (io) "PB3/JTDO/SPI3_SCK/TRACESWO/TIM2_CH2/SPI1_SCK", 56 PB4 (io) "PB4/NJTRST/SPI3_MISO/TIM3_CH1/SPI1_MISO", 57 PB5 (io) "PB5/I2C1_SMBA/SPI3_MOSI/TIM16_BKIN/TIM3_CH2/SPI1_MOSI", 58 PB6 (io) "PB6/I2C1_SCL/TIM4_CH1/TIM16_CH1N/USART1_TX", 59 PB7 (io) "PB7/I2C1_SDA/TIM4_CH2/TIM17_CH1N/USART1_RX", 60 BOOT0 (in), 61 PB8 (io) "PB8/TIM4_CH3/TIM16_CH1/HDMI_CEC/I2C1_SCL", 62 PB9 (io) "PB9/TIM4_CH4/TIM17_CH1/I2C1_SDA"
part B pins: 1 VBAT (power), 12 VSSA (power), 13 VDDA (power), 18 VSS_4 (power), 19 VDD_4 (power), 31 VSS_1 (power), 32 VDD_1 (power), 47 VSS_2 (power), 48 VDD_2 (power), 63 VSS_3 (power), 64 VDD_3 (power)

## STM32F100RDT6B
designator U?
ARM Cortex-M3 32-bit MCU, 384 KB Flash, 32 KB Internal RAM, 51 I/Os, 64-pin LQFP, -40 to 85 degC, Tray; PartNumber: STM32F100RDT6B; A/D Converter: 1x12-bit (16 Channel); D/A Converter: 2x12-bit (2 Channel); FLASH Size (Prog) (kB): 384; I/Os (High Current): 51; Internal RAM Size (kB): 32; Operating Frequency(F) (Processor speed) (MHz): 24; Supply Voltage(Vcc) min (V): 2; DatasheetVersion: Rev. 7; PackageVersion: Rev. 4, 06/2013; PackageReference: LQFP64; PackageDescription: 64-Pin Low Profile Quad Flat Package, 10 x 10 mm Body, 0.5 mm Pitch; Supplier 1: Digi-Key; Supplier Part Number 1: STM32F100RDT6B-ND; Supplier 2: Farnell; Supplier Part Number 2: 1898995; Supplier 3: Newark; Supplier Part Number 3: 73T7097; Supplier 4: Newark; Supplier Part Number 4: 39T7123; Supplier 5: Mouser; Supplier Part Number 5: 511-STM32F100RDT6B; Core: ARM Cortex-M3; Packing: Tray; Mounting Technology: Surface Mount; ComponentLink1Description: Manufacturer URL; ComponentLink1URL: http://www.st.com/web/en/home.html; ComponentLink2Description: Datasheet; ComponentLink2URL: http://www.st.com/st-web-ui/static/active/en/resource/technical/document/datasheet/CD00212417.pdf; ComponentLink3Description: Package Specification; ComponentLink3URL: http://www.st.com/st-web-ui/static/active/en/resource/technical/document/datasheet/DM00037051.pdf
footprint STM-LQFP64_N (Thin QFP, 64-Leads, Body 10x10mm, Pitch 0.5mm, IPC Medium Density)
footprint STM-LQFP64_L (Thin QFP, 64-Leads, Body 10x10mm, Pitch 0.5mm, IPC High Density)
footprint STM-LQFP64_M (Thin QFP, 64-Leads, Body 10x10mm, Pitch 0.5mm, IPC Low Density)
footprint STM-LQFP64_V (Thin QFP, 64-Leads, Body 10x10mm, Pitch 0.5mm, ST Recommended)
part A pins: 2 PC13-TAMPER-RTC (io) "PC13-TAMPER-RTC/PC13/TAMPER-RTC", 3 PC14-OSC32_IN (io) "PC14-OSC32_IN/PC14/OSC32_IN", 4 PC15-OSC32_OUT (io) "PC15-OSC32_OUT/PC15/OSC32_OUT", 5 PD0-OSC_IN (io) "PD0/OSC_IN", 6 PD1-OSC_OUT (io) "PD1/OSC_OUT", 7 NRST (io), 8 PC0 (io) "PC0/ADC_IN10", 9 PC1 (io) "PC1/ADC_IN11", 10 PC2 (io) "PC2/ADC_IN12", 11 PC3 (io) "PC3/ADC_IN13", 14 PA0-WKUP (io) "PA0-WKUP/PA0/WKUP/USART2_CTS/ADC_IN0/TIM2_CH1_ETR/TIM5_CH1", 15 PA1 (io) "PA1/USART2_RTS/ADC_IN1/TIM5_CH2/TIM2_CH2", 16 PA2 (io) "PA2/USART2_TX/TIM5_CH3/ADC_IN2/TIM15_CH1/TIM2_CH3", 17 PA3 (io) "PA3/USART2_RX/TIM5_CH4/ADC_IN3/TIM2_CH4/TIM15_CH2", 20 PA4 (io) "PA4/SPI1_NSS/USART2_CK/DAC_OUT1/ADC_IN4", 21 PA5 (io) "PA5/SPI1_SCK/DAC_OUT2/ADC_IN5", 22 PA6 (io) "PA6/SPI1_MISO/ADC_IN6/TIM3_CH1/TIM1_BKIN/TIM16_CH1", 23 PA7 (io) "PA7/SPI1_MOSI/ADC_IN7/TIM3_CH2/TIM1_CH1N/TIM17_CH1", 24 PC4 (io) "PC4/ADC_IN14/TIM12_CH1", 25 PC5 (io) "PC5/ADC_IN15/TIM12_CH2", 26 PB0 (io) "PB0/ADC_IN8/TIM3_CH3/TIM1_CH2N/TIM13_CH1", 27 PB1 (io) "PB1/ADC_IN9/TIM3_CH4/TIM1_CH3N/TIM14_CH1", 28 PB2 (io) "PB2/BOOT1", 29 PB10 (io) "PB10/I2C2_SCL/USART3_TX/TIM2_CH3/HDMI_CEC", 30 PB11 (io) "PB11/I2C2_SDA/USART3_RX/TIM2_CH4", 33 PB12 (io) "PB12/SPI2_NSS/I2C2_SMBA/USART3_CK/TIM1_BKIN/TIM12_CH1", 34 PB13 (io) "PB13/SPI2_SCK/USART3_CTS/TIM1_CH1N/TIM12_CH2", 35 PB14 (io) "PB14/SPI2_MISO/TIM1_CH2N/USART3_RTS/TIM15_CH1", 36 PB15 (io) "PB15/SPI2_MOSI/TIM1_CH3N/TIM15_CH1N/TIM15_CH2", 37 PC6 (io) "PC6/TIM3_CH1", 38 PC7 (io) "PC7/TIM3_CH2", 39 PC8 (io) "PC8/TIM13_CH1/TIM3_CH3", 40 PC9 (io) "PC9/TIM14_CH1/TIM3_CH4", 41 PA8 (io) "PA8/USART1_CK/TIM1_CH1/MCO", 42 PA9 (io) "PA9/USART1_TX/TIM1_CH2/TIM15_BKIN", 43 PA10 (io) "PA10/USART1_RX/TIM1_CH3/TIM17_BKIN", 44 PA11 (io) "PA11/USART1_CTS/TIM1_CH4", 45 PA12 (io) "PA12/USART1_RTS/TIM1_ETR", 46 PA13 (io) "PA13/JTMS-SWDIO", 49 PA14 (io) "PA14/JTCK-SWCLK", 50 PA15 (io) "PA15/JTDI/SPI3_NSS/TIM2_CH1_ETR/SPI1_NSS", 51 PC10 (io) "PC10/UART4_TX/USART3_TX", 52 PC11 (io) "PC11/UART4_RX/USART3_RX", 53 PC12 (io) "PC12/UART5_TX/USART3_CK", 54 PD2 (io) "PD2/TIM3_ETR/UART5_RX", 55 PB3 (io) "PB3/JTDO/SPI3_SCK/TRACESWO/TIM2_CH2/SPI1_SCK", 56 PB4 (io) "PB4/NJTRST/SPI3_MISO/TIM3_CH1/SPI1_MISO", 57 PB5 (io) "PB5/I2C1_SMBA/SPI3_MOSI/TIM16_BKIN/TIM3_CH2/SPI1_MOSI", 58 PB6 (io) "PB6/I2C1_SCL/TIM4_CH1/TIM16_CH1N/USART1_TX", 59 PB7 (io) "PB7/I2C1_SDA/TIM4_CH2/TIM17_CH1N/USART1_RX", 60 BOOT0 (in), 61 PB8 (io) "PB8/TIM4_CH3/TIM16_CH1/HDMI_CEC/I2C1_SCL", 62 PB9 (io) "PB9/TIM4_CH4/TIM17_CH1/I2C1_SDA"
part B pins: 1 VBAT (power), 12 VSSA (power), 13 VDDA (power), 18 VSS_4 (power), 19 VDD_4 (power), 31 VSS_1 (power), 32 VDD_1 (power), 47 VSS_2 (power), 48 VDD_2 (power), 63 VSS_3 (power), 64 VDD_3 (power)

## STM32F100RDT6BTR
designator U?
ARM Cortex-M3 32-bit MCU, 384 KB Flash, 32 KB Internal RAM, 51 I/Os, 64-pin LQFP, -40 to 85 degC, Tape and Reel; PartNumber: STM32F100RDT6BTR; A/D Converter: 1x12-bit (16 Channel); D/A Converter: 2x12-bit (2 Channel); FLASH Size (Prog) (kB): 384; I/Os (High Current): 51; Internal RAM Size (kB): 32; Operating Frequency(F) (Processor speed) (MHz): 24; Supply Voltage(Vcc) min (V): 2; DatasheetVersion: Rev. 7; PackageVersion: Rev. 4, 06/2013; PackageReference: LQFP64; PackageDescription: 64-Pin Low Profile Quad Flat Package, 10 x 10 mm Body, 0.5 mm Pitch; Supplier 1: Farnell; Supplier Part Number 1: 2333354; Supplier 2: Newark; Supplier Part Number 2: 99W9766; Supplier 3: Mouser; Supplier Part Number 3: N/A; Core: ARM Cortex-M3; Packing: Tape and Reel; Mounting Technology: Surface Mount; ComponentLink1Description: Manufacturer URL; ComponentLink1URL: http://www.st.com/web/en/home.html; ComponentLink2Description: Datasheet; ComponentLink2URL: http://www.st.com/st-web-ui/static/active/en/resource/technical/document/datasheet/CD00212417.pdf; ComponentLink3Description: Package Specification; ComponentLink3URL: http://www.st.com/st-web-ui/static/active/en/resource/technical/document/datasheet/DM00037051.pdf
footprint STM-LQFP64_N (Thin QFP, 64-Leads, Body 10x10mm, Pitch 0.5mm, IPC Medium Density)
footprint STM-LQFP64_L (Thin QFP, 64-Leads, Body 10x10mm, Pitch 0.5mm, IPC High Density)
footprint STM-LQFP64_M (Thin QFP, 64-Leads, Body 10x10mm, Pitch 0.5mm, IPC Low Density)
footprint STM-LQFP64_V (Thin QFP, 64-Leads, Body 10x10mm, Pitch 0.5mm, ST Recommended)
part A pins: 2 PC13-TAMPER-RTC (io) "PC13-TAMPER-RTC/PC13/TAMPER-RTC", 3 PC14-OSC32_IN (io) "PC14-OSC32_IN/PC14/OSC32_IN", 4 PC15-OSC32_OUT (io) "PC15-OSC32_OUT/PC15/OSC32_OUT", 5 PD0-OSC_IN (io) "PD0/OSC_IN", 6 PD1-OSC_OUT (io) "PD1/OSC_OUT", 7 NRST (io), 8 PC0 (io) "PC0/ADC_IN10", 9 PC1 (io) "PC1/ADC_IN11", 10 PC2 (io) "PC2/ADC_IN12", 11 PC3 (io) "PC3/ADC_IN13", 14 PA0-WKUP (io) "PA0-WKUP/PA0/WKUP/USART2_CTS/ADC_IN0/TIM2_CH1_ETR/TIM5_CH1", 15 PA1 (io) "PA1/USART2_RTS/ADC_IN1/TIM5_CH2/TIM2_CH2", 16 PA2 (io) "PA2/USART2_TX/TIM5_CH3/ADC_IN2/TIM15_CH1/TIM2_CH3", 17 PA3 (io) "PA3/USART2_RX/TIM5_CH4/ADC_IN3/TIM2_CH4/TIM15_CH2", 20 PA4 (io) "PA4/SPI1_NSS/USART2_CK/DAC_OUT1/ADC_IN4", 21 PA5 (io) "PA5/SPI1_SCK/DAC_OUT2/ADC_IN5", 22 PA6 (io) "PA6/SPI1_MISO/ADC_IN6/TIM3_CH1/TIM1_BKIN/TIM16_CH1", 23 PA7 (io) "PA7/SPI1_MOSI/ADC_IN7/TIM3_CH2/TIM1_CH1N/TIM17_CH1", 24 PC4 (io) "PC4/ADC_IN14/TIM12_CH1", 25 PC5 (io) "PC5/ADC_IN15/TIM12_CH2", 26 PB0 (io) "PB0/ADC_IN8/TIM3_CH3/TIM1_CH2N/TIM13_CH1", 27 PB1 (io) "PB1/ADC_IN9/TIM3_CH4/TIM1_CH3N/TIM14_CH1", 28 PB2 (io) "PB2/BOOT1", 29 PB10 (io) "PB10/I2C2_SCL/USART3_TX/TIM2_CH3/HDMI_CEC", 30 PB11 (io) "PB11/I2C2_SDA/USART3_RX/TIM2_CH4", 33 PB12 (io) "PB12/SPI2_NSS/I2C2_SMBA/USART3_CK/TIM1_BKIN/TIM12_CH1", 34 PB13 (io) "PB13/SPI2_SCK/USART3_CTS/TIM1_CH1N/TIM12_CH2", 35 PB14 (io) "PB14/SPI2_MISO/TIM1_CH2N/USART3_RTS/TIM15_CH1", 36 PB15 (io) "PB15/SPI2_MOSI/TIM1_CH3N/TIM15_CH1N/TIM15_CH2", 37 PC6 (io) "PC6/TIM3_CH1", 38 PC7 (io) "PC7/TIM3_CH2", 39 PC8 (io) "PC8/TIM13_CH1/TIM3_CH3", 40 PC9 (io) "PC9/TIM14_CH1/TIM3_CH4", 41 PA8 (io) "PA8/USART1_CK/TIM1_CH1/MCO", 42 PA9 (io) "PA9/USART1_TX/TIM1_CH2/TIM15_BKIN", 43 PA10 (io) "PA10/USART1_RX/TIM1_CH3/TIM17_BKIN", 44 PA11 (io) "PA11/USART1_CTS/TIM1_CH4", 45 PA12 (io) "PA12/USART1_RTS/TIM1_ETR", 46 PA13 (io) "PA13/JTMS-SWDIO", 49 PA14 (io) "PA14/JTCK-SWCLK", 50 PA15 (io) "PA15/JTDI/SPI3_NSS/TIM2_CH1_ETR/SPI1_NSS", 51 PC10 (io) "PC10/UART4_TX/USART3_TX", 52 PC11 (io) "PC11/UART4_RX/USART3_RX", 53 PC12 (io) "PC12/UART5_TX/USART3_CK", 54 PD2 (io) "PD2/TIM3_ETR/UART5_RX", 55 PB3 (io) "PB3/JTDO/SPI3_SCK/TRACESWO/TIM2_CH2/SPI1_SCK", 56 PB4 (io) "PB4/NJTRST/SPI3_MISO/TIM3_CH1/SPI1_MISO", 57 PB5 (io) "PB5/I2C1_SMBA/SPI3_MOSI/TIM16_BKIN/TIM3_CH2/SPI1_MOSI", 58 PB6 (io) "PB6/I2C1_SCL/TIM4_CH1/TIM16_CH1N/USART1_TX", 59 PB7 (io) "PB7/I2C1_SDA/TIM4_CH2/TIM17_CH1N/USART1_RX", 60 BOOT0 (in), 61 PB8 (io) "PB8/TIM4_CH3/TIM16_CH1/HDMI_CEC/I2C1_SCL", 62 PB9 (io) "PB9/TIM4_CH4/TIM17_CH1/I2C1_SDA"
part B pins: 1 VBAT (power), 12 VSSA (power), 13 VDDA (power), 18 VSS_4 (power), 19 VDD_4 (power), 31 VSS_1 (power), 32 VDD_1 (power), 47 VSS_2 (power), 48 VDD_2 (power), 63 VSS_3 (power), 64 VDD_3 (power)

## STM32F100RET6
designator U?
ARM Cortex-M3 32-bit MCU, 512 KB Flash, 32 KB Internal RAM, 51 I/Os, 64-pin LQFP, -40 to 85 degC, Tray; PartNumber: STM32F100RET6; A/D Converter: 1x12-bit (16 Channel); D/A Converter: 2x12-bit (2 Channel); FLASH Size (Prog) (kB): 512; I/Os (High Current): 51; Internal RAM Size (kB): 32; Operating Frequency(F) (Processor speed) (MHz): 24; Supply Voltage(Vcc) min (V): 2; DatasheetVersion: Rev. 7; PackageVersion: Rev. 4, 06/2013; PackageReference: LQFP64; PackageDescription: 64-Pin Low Profile Quad Flat Package, 10 x 10 mm Body, 0.5 mm Pitch; Supplier 1: Mouser; Supplier Part Number 1: N/A; Core: ARM Cortex-M3; Packing: Tray; Mounting Technology: Surface Mount; ComponentLink1Description: Manufacturer URL; ComponentLink1URL: http://www.st.com/web/en/home.html; ComponentLink2Description: Datasheet; ComponentLink2URL: http://www.st.com/st-web-ui/static/active/en/resource/technical/document/datasheet/CD00212417.pdf; ComponentLink3Description: Package Specification; ComponentLink3URL: http://www.st.com/st-web-ui/static/active/en/resource/technical/document/datasheet/DM00037051.pdf
footprint STM-LQFP64_N (Thin QFP, 64-Leads, Body 10x10mm, Pitch 0.5mm, IPC Medium Density)
footprint STM-LQFP64_L (Thin QFP, 64-Leads, Body 10x10mm, Pitch 0.5mm, IPC High Density)
footprint STM-LQFP64_M (Thin QFP, 64-Leads, Body 10x10mm, Pitch 0.5mm, IPC Low Density)
footprint STM-LQFP64_V (Thin QFP, 64-Leads, Body 10x10mm, Pitch 0.5mm, ST Recommended)
part A pins: 2 PC13-TAMPER-RTC (io) "PC13-TAMPER-RTC/PC13/TAMPER-RTC", 3 PC14-OSC32_IN (io) "PC14-OSC32_IN/PC14/OSC32_IN", 4 PC15-OSC32_OUT (io) "PC15-OSC32_OUT/PC15/OSC32_OUT", 5 PD0-OSC_IN (io) "PD0/OSC_IN", 6 PD1-OSC_OUT (io) "PD1/OSC_OUT", 7 NRST (io), 8 PC0 (io) "PC0/ADC_IN10", 9 PC1 (io) "PC1/ADC_IN11", 10 PC2 (io) "PC2/ADC_IN12", 11 PC3 (io) "PC3/ADC_IN13", 14 PA0-WKUP (io) "PA0-WKUP/PA0/WKUP/USART2_CTS/ADC_IN0/TIM2_CH1_ETR/TIM5_CH1", 15 PA1 (io) "PA1/USART2_RTS/ADC_IN1/TIM5_CH2/TIM2_CH2", 16 PA2 (io) "PA2/USART2_TX/TIM5_CH3/ADC_IN2/TIM15_CH1/TIM2_CH3", 17 PA3 (io) "PA3/USART2_RX/TIM5_CH4/ADC_IN3/TIM2_CH4/TIM15_CH2", 20 PA4 (io) "PA4/SPI1_NSS/USART2_CK/DAC_OUT1/ADC_IN4", 21 PA5 (io) "PA5/SPI1_SCK/DAC_OUT2/ADC_IN5", 22 PA6 (io) "PA6/SPI1_MISO/ADC_IN6/TIM3_CH1/TIM1_BKIN/TIM16_CH1", 23 PA7 (io) "PA7/SPI1_MOSI/ADC_IN7/TIM3_CH2/TIM1_CH1N/TIM17_CH1", 24 PC4 (io) "PC4/ADC_IN14/TIM12_CH1", 25 PC5 (io) "PC5/ADC_IN15/TIM12_CH2", 26 PB0 (io) "PB0/ADC_IN8/TIM3_CH3/TIM1_CH2N/TIM13_CH1", 27 PB1 (io) "PB1/ADC_IN9/TIM3_CH4/TIM1_CH3N/TIM14_CH1", 28 PB2 (io) "PB2/BOOT1", 29 PB10 (io) "PB10/I2C2_SCL/USART3_TX/TIM2_CH3/HDMI_CEC", 30 PB11 (io) "PB11/I2C2_SDA/USART3_RX/TIM2_CH4", 33 PB12 (io) "PB12/SPI2_NSS/I2C2_SMBA/USART3_CK/TIM1_BKIN/TIM12_CH1", 34 PB13 (io) "PB13/SPI2_SCK/USART3_CTS/TIM1_CH1N/TIM12_CH2", 35 PB14 (io) "PB14/SPI2_MISO/TIM1_CH2N/USART3_RTS/TIM15_CH1", 36 PB15 (io) "PB15/SPI2_MOSI/TIM1_CH3N/TIM15_CH1N/TIM15_CH2", 37 PC6 (io) "PC6/TIM3_CH1", 38 PC7 (io) "PC7/TIM3_CH2", 39 PC8 (io) "PC8/TIM13_CH1/TIM3_CH3", 40 PC9 (io) "PC9/TIM14_CH1/TIM3_CH4", 41 PA8 (io) "PA8/USART1_CK/TIM1_CH1/MCO", 42 PA9 (io) "PA9/USART1_TX/TIM1_CH2/TIM15_BKIN", 43 PA10 (io) "PA10/USART1_RX/TIM1_CH3/TIM17_BKIN", 44 PA11 (io) "PA11/USART1_CTS/TIM1_CH4", 45 PA12 (io) "PA12/USART1_RTS/TIM1_ETR", 46 PA13 (io) "PA13/JTMS-SWDIO", 49 PA14 (io) "PA14/JTCK-SWCLK", 50 PA15 (io) "PA15/JTDI/SPI3_NSS/TIM2_CH1_ETR/SPI1_NSS", 51 PC10 (io) "PC10/UART4_TX/USART3_TX", 52 PC11 (io) "PC11/UART4_RX/USART3_RX", 53 PC12 (io) "PC12/UART5_TX/USART3_CK", 54 PD2 (io) "PD2/TIM3_ETR/UART5_RX", 55 PB3 (io) "PB3/JTDO/SPI3_SCK/TRACESWO/TIM2_CH2/SPI1_SCK", 56 PB4 (io) "PB4/NJTRST/SPI3_MISO/TIM3_CH1/SPI1_MISO", 57 PB5 (io) "PB5/I2C1_SMBA/SPI3_MOSI/TIM16_BKIN/TIM3_CH2/SPI1_MOSI", 58 PB6 (io) "PB6/I2C1_SCL/TIM4_CH1/TIM16_CH1N/USART1_TX", 59 PB7 (io) "PB7/I2C1_SDA/TIM4_CH2/TIM17_CH1N/USART1_RX", 60 BOOT0 (in), 61 PB8 (io) "PB8/TIM4_CH3/TIM16_CH1/HDMI_CEC/I2C1_SCL", 62 PB9 (io) "PB9/TIM4_CH4/TIM17_CH1/I2C1_SDA"
part B pins: 1 VBAT (power), 12 VSSA (power), 13 VDDA (power), 18 VSS_4 (power), 19 VDD_4 (power), 31 VSS_1 (power), 32 VDD_1 (power), 47 VSS_2 (power), 48 VDD_2 (power), 63 VSS_3 (power), 64 VDD_3 (power)

## STM32F100RET6B
designator U?
ARM Cortex-M3 32-bit MCU, 512 KB Flash, 32 KB Internal RAM, 51 I/Os, 64-pin LQFP, -40 to 85 degC, Tray; PartNumber: STM32F100RET6B; A/D Converter: 1x12-bit (16 Channel); D/A Converter: 2x12-bit (2 Channel); FLASH Size (Prog) (kB): 512; I/Os (High Current): 51; Internal RAM Size (kB): 32; Operating Frequency(F) (Processor speed) (MHz): 24; Supply Voltage(Vcc) min (V): 2; DatasheetVersion: Rev. 7; PackageVersion: Rev. 4, 06/2013; PackageReference: LQFP64; PackageDescription: 64-Pin Low Profile Quad Flat Package, 10 x 10 mm Body, 0.5 mm Pitch; Supplier 1: Digi-Key; Supplier Part Number 1: STM32F100RET6B-ND; Supplier 2: Farnell; Supplier Part Number 2: 1898996; Supplier 3: Newark; Supplier Part Number 3: 73T7098; Supplier 4: Mouser; Supplier Part Number 4: 511-STM32F100RET6B; Core: ARM Cortex-M3; Packing: Tray; Mounting Technology: Surface Mount; ComponentLink1Description: Manufacturer URL; ComponentLink1URL: http://www.st.com/web/en/home.html; ComponentLink2Description: Datasheet; ComponentLink2URL: http://www.st.com/st-web-ui/static/active/en/resource/technical/document/datasheet/CD00212417.pdf; ComponentLink3Description: Package Specification; ComponentLink3URL: http://www.st.com/st-web-ui/static/active/en/resource/technical/document/datasheet/DM00037051.pdf
footprint STM-LQFP64_N (Thin QFP, 64-Leads, Body 10x10mm, Pitch 0.5mm, IPC Medium Density)
footprint STM-LQFP64_L (Thin QFP, 64-Leads, Body 10x10mm, Pitch 0.5mm, IPC High Density)
footprint STM-LQFP64_M (Thin QFP, 64-Leads, Body 10x10mm, Pitch 0.5mm, IPC Low Density)
footprint STM-LQFP64_V (Thin QFP, 64-Leads, Body 10x10mm, Pitch 0.5mm, ST Recommended)
part A pins: 2 PC13-TAMPER-RTC (io) "PC13-TAMPER-RTC/PC13/TAMPER-RTC", 3 PC14-OSC32_IN (io) "PC14-OSC32_IN/PC14/OSC32_IN", 4 PC15-OSC32_OUT (io) "PC15-OSC32_OUT/PC15/OSC32_OUT", 5 PD0-OSC_IN (io) "PD0/OSC_IN", 6 PD1-OSC_OUT (io) "PD1/OSC_OUT", 7 NRST (io), 8 PC0 (io) "PC0/ADC_IN10", 9 PC1 (io) "PC1/ADC_IN11", 10 PC2 (io) "PC2/ADC_IN12", 11 PC3 (io) "PC3/ADC_IN13", 14 PA0-WKUP (io) "PA0-WKUP/PA0/WKUP/USART2_CTS/ADC_IN0/TIM2_CH1_ETR/TIM5_CH1", 15 PA1 (io) "PA1/USART2_RTS/ADC_IN1/TIM5_CH2/TIM2_CH2", 16 PA2 (io) "PA2/USART2_TX/TIM5_CH3/ADC_IN2/TIM15_CH1/TIM2_CH3", 17 PA3 (io) "PA3/USART2_RX/TIM5_CH4/ADC_IN3/TIM2_CH4/TIM15_CH2", 20 PA4 (io) "PA4/SPI1_NSS/USART2_CK/DAC_OUT1/ADC_IN4", 21 PA5 (io) "PA5/SPI1_SCK/DAC_OUT2/ADC_IN5", 22 PA6 (io) "PA6/SPI1_MISO/ADC_IN6/TIM3_CH1/TIM1_BKIN/TIM16_CH1", 23 PA7 (io) "PA7/SPI1_MOSI/ADC_IN7/TIM3_CH2/TIM1_CH1N/TIM17_CH1", 24 PC4 (io) "PC4/ADC_IN14/TIM12_CH1", 25 PC5 (io) "PC5/ADC_IN15/TIM12_CH2", 26 PB0 (io) "PB0/ADC_IN8/TIM3_CH3/TIM1_CH2N/TIM13_CH1", 27 PB1 (io) "PB1/ADC_IN9/TIM3_CH4/TIM1_CH3N/TIM14_CH1", 28 PB2 (io) "PB2/BOOT1", 29 PB10 (io) "PB10/I2C2_SCL/USART3_TX/TIM2_CH3/HDMI_CEC", 30 PB11 (io) "PB11/I2C2_SDA/USART3_RX/TIM2_CH4", 33 PB12 (io) "PB12/SPI2_NSS/I2C2_SMBA/USART3_CK/TIM1_BKIN/TIM12_CH1", 34 PB13 (io) "PB13/SPI2_SCK/USART3_CTS/TIM1_CH1N/TIM12_CH2", 35 PB14 (io) "PB14/SPI2_MISO/TIM1_CH2N/USART3_RTS/TIM15_CH1", 36 PB15 (io) "PB15/SPI2_MOSI/TIM1_CH3N/TIM15_CH1N/TIM15_CH2", 37 PC6 (io) "PC6/TIM3_CH1", 38 PC7 (io) "PC7/TIM3_CH2", 39 PC8 (io) "PC8/TIM13_CH1/TIM3_CH3", 40 PC9 (io) "PC9/TIM14_CH1/TIM3_CH4", 41 PA8 (io) "PA8/USART1_CK/TIM1_CH1/MCO", 42 PA9 (io) "PA9/USART1_TX/TIM1_CH2/TIM15_BKIN", 43 PA10 (io) "PA10/USART1_RX/TIM1_CH3/TIM17_BKIN", 44 PA11 (io) "PA11/USART1_CTS/TIM1_CH4", 45 PA12 (io) "PA12/USART1_RTS/TIM1_ETR", 46 PA13 (io) "PA13/JTMS-SWDIO", 49 PA14 (io) "PA14/JTCK-SWCLK", 50 PA15 (io) "PA15/JTDI/SPI3_NSS/TIM2_CH1_ETR/SPI1_NSS", 51 PC10 (io) "PC10/UART4_TX/USART3_TX", 52 PC11 (io) "PC11/UART4_RX/USART3_RX", 53 PC12 (io) "PC12/UART5_TX/USART3_CK", 54 PD2 (io) "PD2/TIM3_ETR/UART5_RX", 55 PB3 (io) "PB3/JTDO/SPI3_SCK/TRACESWO/TIM2_CH2/SPI1_SCK", 56 PB4 (io) "PB4/NJTRST/SPI3_MISO/TIM3_CH1/SPI1_MISO", 57 PB5 (io) "PB5/I2C1_SMBA/SPI3_MOSI/TIM16_BKIN/TIM3_CH2/SPI1_MOSI", 58 PB6 (io) "PB6/I2C1_SCL/TIM4_CH1/TIM16_CH1N/USART1_TX", 59 PB7 (io) "PB7/I2C1_SDA/TIM4_CH2/TIM17_CH1N/USART1_RX", 60 BOOT0 (in), 61 PB8 (io) "PB8/TIM4_CH3/TIM16_CH1/HDMI_CEC/I2C1_SCL", 62 PB9 (io) "PB9/TIM4_CH4/TIM17_CH1/I2C1_SDA"
part B pins: 1 VBAT (power), 12 VSSA (power), 13 VDDA (power), 18 VSS_4 (power), 19 VDD_4 (power), 31 VSS_1 (power), 32 VDD_1 (power), 47 VSS_2 (power), 48 VDD_2 (power), 63 VSS_3 (power), 64 VDD_3 (power)

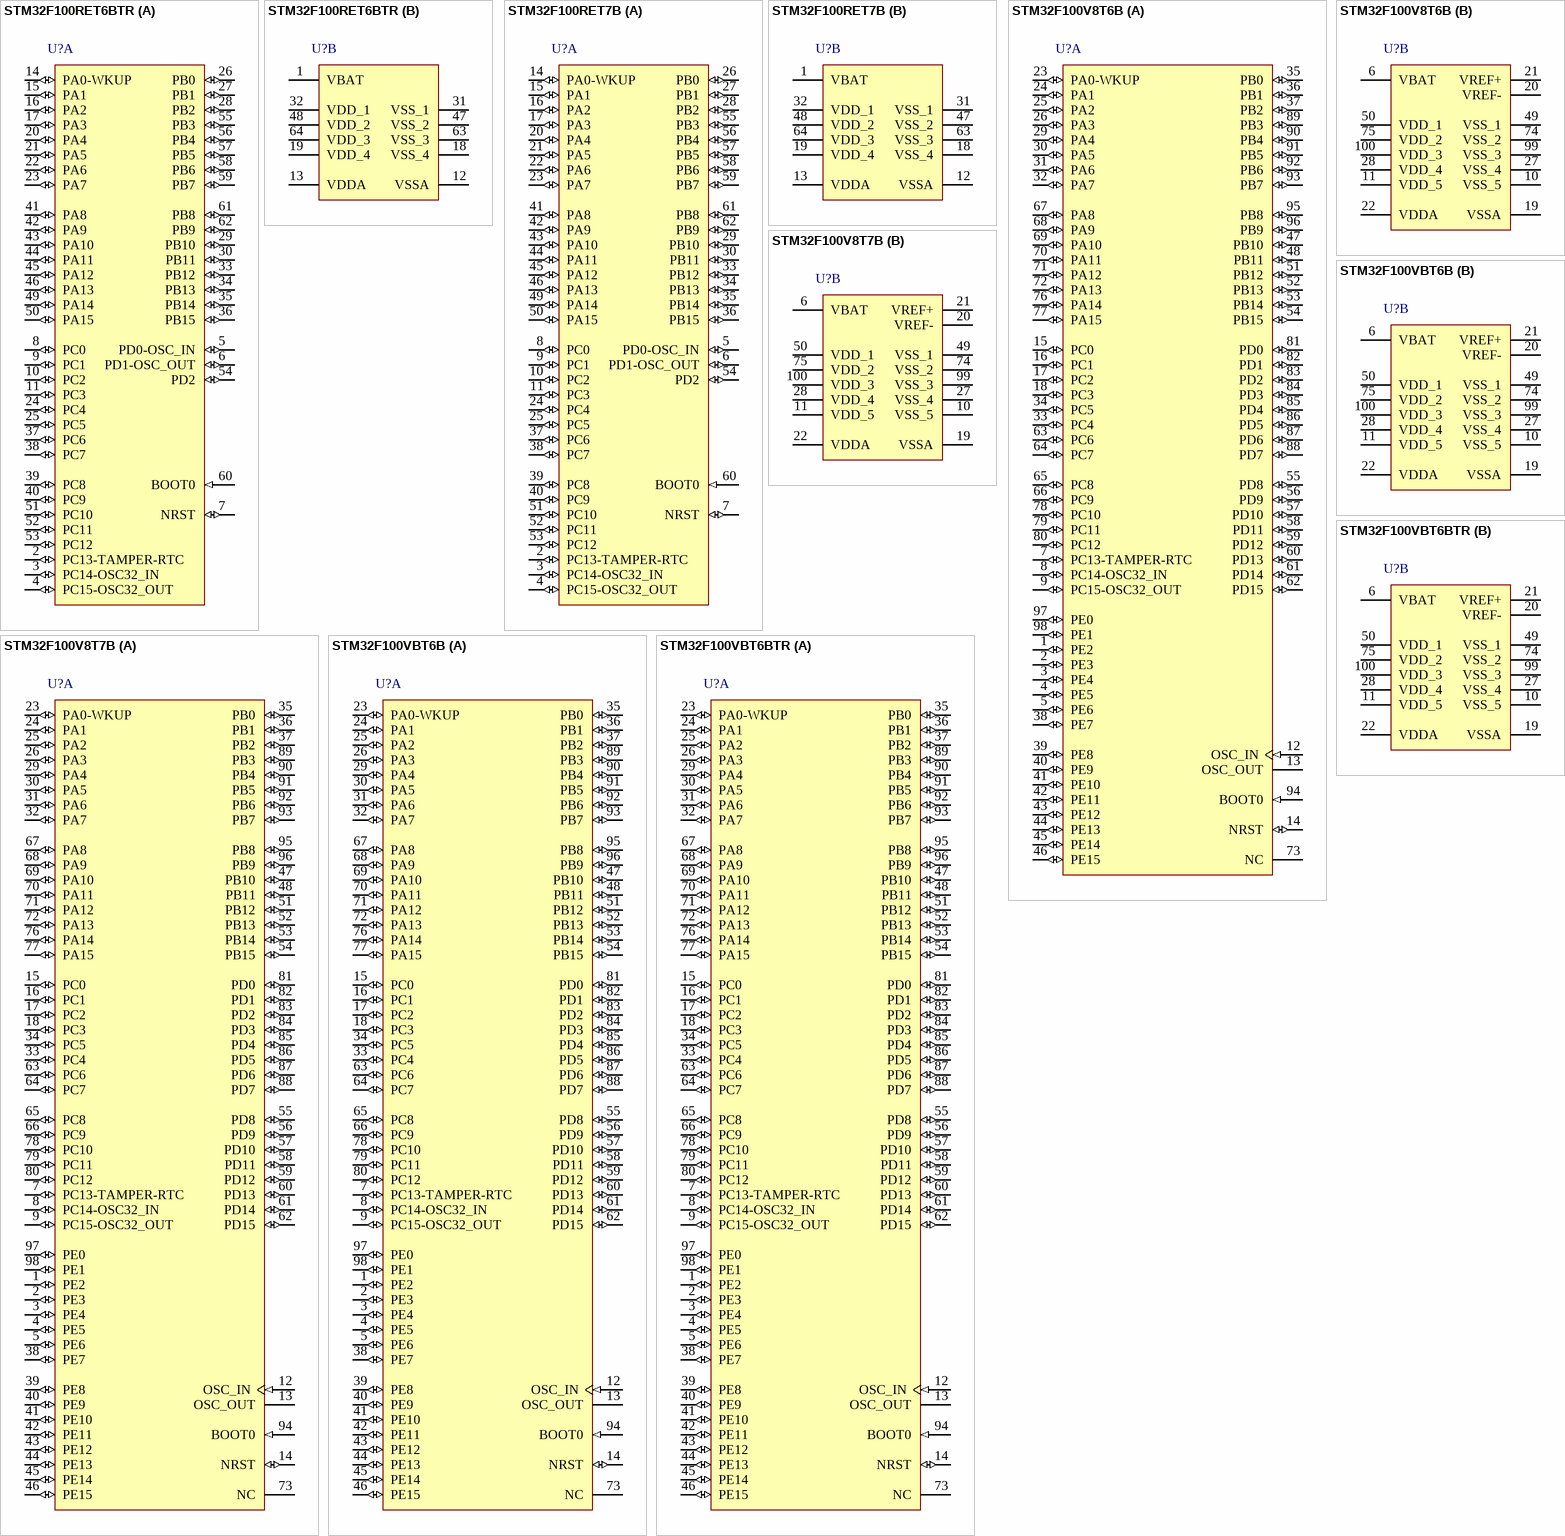
[diagram p4: symbols STM32F100RET6BTR to STM32F100VBT6BTR]

## STM32F100RET6BTR
designator U?
ARM Cortex-M3 32-bit MCU, 512 KB Flash, 32 KB Internal RAM, 51 I/Os, 64-pin LQFP, -40 to 85 degC, Tape and Reel; PartNumber: STM32F100RET6BTR; A/D Converter: 1x12-bit (16 Channel); D/A Converter: 2x12-bit (2 Channel); FLASH Size (Prog) (kB): 512; I/Os (High Current): 51; Internal RAM Size (kB): 32; Operating Frequency(F) (Processor speed) (MHz): 24; Supply Voltage(Vcc) min (V): 2; DatasheetVersion: Rev. 7; PackageVersion: Rev. 4, 06/2013; PackageReference: LQFP64; PackageDescription: 64-Pin Low Profile Quad Flat Package, 10 x 10 mm Body, 0.5 mm Pitch; Supplier 1: Digi-Key; Supplier Part Number 1: STM32F100RET6BTR-ND; Supplier 2: Mouser; Supplier Part Number 2: 511-STM32F100RET6BTR; Core: ARM Cortex-M3; Packing: Tape and Reel; Mounting Technology: Surface Mount; ComponentLink1Description: Manufacturer URL; ComponentLink1URL: http://www.st.com/web/en/home.html; ComponentLink2Description: Datasheet; ComponentLink2URL: http://www.st.com/st-web-ui/static/active/en/resource/technical/document/datasheet/CD00212417.pdf; ComponentLink3Description: Package Specification; ComponentLink3URL: http://www.st.com/st-web-ui/static/active/en/resource/technical/document/datasheet/DM00037051.pdf
footprint STM-LQFP64_N (Thin QFP, 64-Leads, Body 10x10mm, Pitch 0.5mm, IPC Medium Density)
footprint STM-LQFP64_L (Thin QFP, 64-Leads, Body 10x10mm, Pitch 0.5mm, IPC High Density)
footprint STM-LQFP64_M (Thin QFP, 64-Leads, Body 10x10mm, Pitch 0.5mm, IPC Low Density)
footprint STM-LQFP64_V (Thin QFP, 64-Leads, Body 10x10mm, Pitch 0.5mm, ST Recommended)
part A pins: 2 PC13-TAMPER-RTC (io) "PC13-TAMPER-RTC/PC13/TAMPER-RTC", 3 PC14-OSC32_IN (io) "PC14-OSC32_IN/PC14/OSC32_IN", 4 PC15-OSC32_OUT (io) "PC15-OSC32_OUT/PC15/OSC32_OUT", 5 PD0-OSC_IN (io) "PD0/OSC_IN", 6 PD1-OSC_OUT (io) "PD1/OSC_OUT", 7 NRST (io), 8 PC0 (io) "PC0/ADC_IN10", 9 PC1 (io) "PC1/ADC_IN11", 10 PC2 (io) "PC2/ADC_IN12", 11 PC3 (io) "PC3/ADC_IN13", 14 PA0-WKUP (io) "PA0-WKUP/PA0/WKUP/USART2_CTS/ADC_IN0/TIM2_CH1_ETR/TIM5_CH1", 15 PA1 (io) "PA1/USART2_RTS/ADC_IN1/TIM5_CH2/TIM2_CH2", 16 PA2 (io) "PA2/USART2_TX/TIM5_CH3/ADC_IN2/TIM15_CH1/TIM2_CH3", 17 PA3 (io) "PA3/USART2_RX/TIM5_CH4/ADC_IN3/TIM2_CH4/TIM15_CH2", 20 PA4 (io) "PA4/SPI1_NSS/USART2_CK/DAC_OUT1/ADC_IN4", 21 PA5 (io) "PA5/SPI1_SCK/DAC_OUT2/ADC_IN5", 22 PA6 (io) "PA6/SPI1_MISO/ADC_IN6/TIM3_CH1/TIM1_BKIN/TIM16_CH1", 23 PA7 (io) "PA7/SPI1_MOSI/ADC_IN7/TIM3_CH2/TIM1_CH1N/TIM17_CH1", 24 PC4 (io) "PC4/ADC_IN14/TIM12_CH1", 25 PC5 (io) "PC5/ADC_IN15/TIM12_CH2", 26 PB0 (io) "PB0/ADC_IN8/TIM3_CH3/TIM1_CH2N/TIM13_CH1", 27 PB1 (io) "PB1/ADC_IN9/TIM3_CH4/TIM1_CH3N/TIM14_CH1", 28 PB2 (io) "PB2/BOOT1", 29 PB10 (io) "PB10/I2C2_SCL/USART3_TX/TIM2_CH3/HDMI_CEC", 30 PB11 (io) "PB11/I2C2_SDA/USART3_RX/TIM2_CH4", 33 PB12 (io) "PB12/SPI2_NSS/I2C2_SMBA/USART3_CK/TIM1_BKIN/TIM12_CH1", 34 PB13 (io) "PB13/SPI2_SCK/USART3_CTS/TIM1_CH1N/TIM12_CH2", 35 PB14 (io) "PB14/SPI2_MISO/TIM1_CH2N/USART3_RTS/TIM15_CH1", 36 PB15 (io) "PB15/SPI2_MOSI/TIM1_CH3N/TIM15_CH1N/TIM15_CH2", 37 PC6 (io) "PC6/TIM3_CH1", 38 PC7 (io) "PC7/TIM3_CH2", 39 PC8 (io) "PC8/TIM13_CH1/TIM3_CH3", 40 PC9 (io) "PC9/TIM14_CH1/TIM3_CH4", 41 PA8 (io) "PA8/USART1_CK/TIM1_CH1/MCO", 42 PA9 (io) "PA9/USART1_TX/TIM1_CH2/TIM15_BKIN", 43 PA10 (io) "PA10/USART1_RX/TIM1_CH3/TIM17_BKIN", 44 PA11 (io) "PA11/USART1_CTS/TIM1_CH4", 45 PA12 (io) "PA12/USART1_RTS/TIM1_ETR", 46 PA13 (io) "PA13/JTMS-SWDIO", 49 PA14 (io) "PA14/JTCK-SWCLK", 50 PA15 (io) "PA15/JTDI/SPI3_NSS/TIM2_CH1_ETR/SPI1_NSS", 51 PC10 (io) "PC10/UART4_TX/USART3_TX", 52 PC11 (io) "PC11/UART4_RX/USART3_RX", 53 PC12 (io) "PC12/UART5_TX/USART3_CK", 54 PD2 (io) "PD2/TIM3_ETR/UART5_RX", 55 PB3 (io) "PB3/JTDO/SPI3_SCK/TRACESWO/TIM2_CH2/SPI1_SCK", 56 PB4 (io) "PB4/NJTRST/SPI3_MISO/TIM3_CH1/SPI1_MISO", 57 PB5 (io) "PB5/I2C1_SMBA/SPI3_MOSI/TIM16_BKIN/TIM3_CH2/SPI1_MOSI", 58 PB6 (io) "PB6/I2C1_SCL/TIM4_CH1/TIM16_CH1N/USART1_TX", 59 PB7 (io) "PB7/I2C1_SDA/TIM4_CH2/TIM17_CH1N/USART1_RX", 60 BOOT0 (in), 61 PB8 (io) "PB8/TIM4_CH3/TIM16_CH1/HDMI_CEC/I2C1_SCL", 62 PB9 (io) "PB9/TIM4_CH4/TIM17_CH1/I2C1_SDA"
part B pins: 1 VBAT (power), 12 VSSA (power), 13 VDDA (power), 18 VSS_4 (power), 19 VDD_4 (power), 31 VSS_1 (power), 32 VDD_1 (power), 47 VSS_2 (power), 48 VDD_2 (power), 63 VSS_3 (power), 64 VDD_3 (power)